# Altium footprint library Power.PcbLib: 3 footprints
Each footprint in its own frame and in the unit in brackets; x right, y up, seen from the top. Pads: shape width x height; smd on the part's side, far side on the other; paste and mask are expansions set on the pad; w line width, h text height; cw(c..) or ccw(c..) is an arc to the next point about the centre after c.
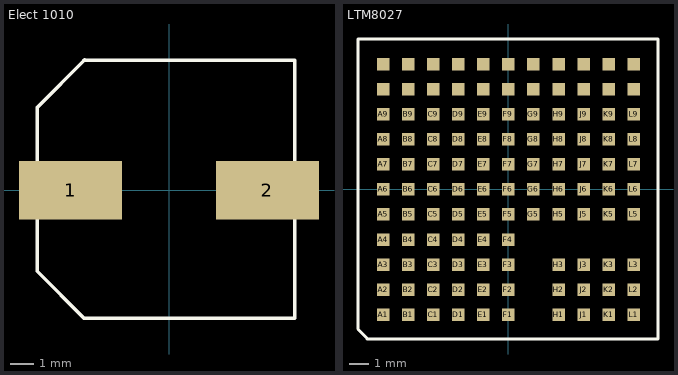
[diagram p0: the footprints below, top view; thin cyan lines are the x and y axes]

## Elect 1010 [mm] "SMT Electro 10mm x 10mm"
height 10
pads (2):
  rect 4.4x2.5 smd: 1(-4.2,0) 2(4.2,0)
Top Overlay:
  lines w0.152: -5.626,3.527 -5.626,-3.461 -3.626,-5.461 5.374,-5.461 5.374,5.539 -3.626,5.539 ; -5.591,3.562 -3.591,5.562 ; -2.803,-5.461 -2.676,-5.461 -2.753,-5.461

## LTM8027 [mil] "113-Lead 15mmx15mm LGA Package"
height 174.02
pads (113):
  rect 25x25 smd: A1(-250,-250) A2(-250,-200) A3(-250,-150) A4(-250,-100) A5(-250,-50) A6(-250,0) A7(-250,50) A8(-250,100) A9(-250,150) A10(-250,200) A11(-250,250) B1(-200,-250) B2(-200,-200) B3(-200,-150) B4(-200,-100) B5(-200,-50) B6(-200,0) B7(-200,50) B8(-200,100) B9(-200,150) B10(-200,200) B11(-200,250) C1(-150,-250) C2(-150,-200) C3(-150,-150) C4(-150,-100) C5(-150,-50) C6(-150,0) C7(-150,50) C8(-150,100) C9(-150,150) C10(-150,200) C11(-150,250) D1(-100,-250) D2(-100,-200) D3(-100,-150) D4(-100,-100) D5(-100,-50) D6(-100,0) D7(-100,50) D8(-100,100) D9(-100,150) D10(-100,200) D11(-100,250) E1(-50,-250) E2(-50,-200) E3(-50,-150) E4(-50,-100) E5(-50,-50) E6(-50,0) E7(-50,50) E8(-50,100) E9(-50,150) E10(-50,200) E11(-50,250) F1(0,-250) F2(0,-200) F3(0,-150) F4(0,-100) F5(0,-50) F6(0,0) F7(0,50) F8(0,100) F9(0,150) F10(0,200) F11(0,250) G5(50,-50) G6(50,0) G7(50,50) G8(50,100) G9(50,150) G10(50,200) G11(50,250) H1(100,-250) H2(100,-200) H3(100,-150) H5(100,-50) H6(100,0) H7(100,50) H8(100,100) H9(100,150) H10(100,200) H11(100,250) J1(150,-250) J2(150,-200) J3(150,-150) J5(150,-50) J6(150,0) J7(150,50) J8(150,100) J9(150,150) J10(150,200) J11(150,250) K1(200,-250) K2(200,-200) K3(200,-150) K5(200,-50) K6(200,0) K7(200,50) K8(200,100) K9(200,150) K10(200,200) K11(200,250) L1(250,-250) L2(250,-200) L3(250,-150) L5(250,-50) L6(250,0) L7(250,50) L8(250,100) L9(250,150) L10(250,200) L11(250,250)
Top Overlay:
  lines w6: -281.57,-298.43 -280.31,-298.43 ; -280.31,-298.43 -300,-278.74 -300,300 298.43,300 298.43,-298.43 -280.31,-298.43

## PCBComponent_1 [mil]